# Altium schematic symbol library LJ_Mosfet_Power.SCHLIB: 137 symbols
Pins are listed as number, name and electrical type; pins without a type are passive.

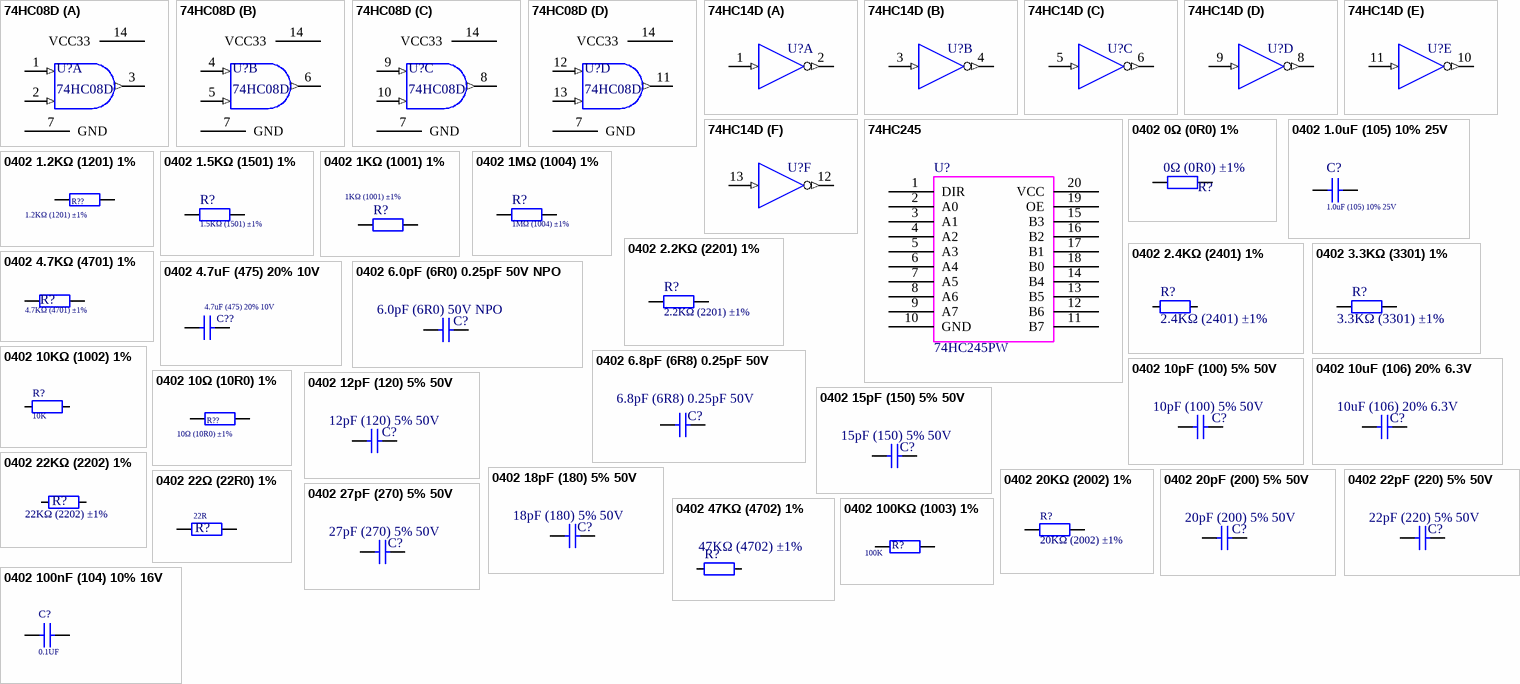
[diagram p0: symbols 74HC08D to 0402 100nF (104) 10% 16V]

## 74HC08D
designator U?
74系列逻辑芯片; ComponentLink1Description: 供应商链接; ComponentLink1URL: http://www.szlcsc.com/product/details_6044.html; Package: SOIC-14_150mil; Supplier: LC; SuppliersPartNumber: C5593
footprint SOIC-14_150mil
pins on every part: 7 GND (power) hidden, 14 VCC33 (power) hidden
part A pins: 1 A (in), 2 B (in), 3 Y (out)
part B pins: 4 A (in), 5 B (in), 6 Y (out)
part C pins: 8 Y (out), 9 A (in), 10 B (in)
part D pins: 11 Y (out), 12 A (in), 13 B (in)

## 74HC14D
designator U?  (value not drawn)
74系列逻辑芯片; ComponentLink1Description: 供应商链接; ComponentLink1URL: http://www.szlcsc.com/product/details_6056.html; Package: SOIC-14_150mil; Supplier: LC; SuppliersPartNumber: C5605
footprint SOIC-14_150mil
pins on every part: 7 GND (power) hidden, 14 VCC33 (power) hidden
part A pins: 1 A (in), 2 Y (out)
part B pins: 3 A (in), 4 Y (out)
part C pins: 5 A (in), 6 Y (out)
part D pins: 8 Y (out), 9 A (in)
part E pins: 10 Y (out), 11 A (in)
part F pins: 12 Y (out), 13 A (in)

## 74HC245
designator U?, comment 74HC245PW
74系列逻辑芯片; ComponentLink1Description: 供应商链接; ComponentLink1URL: http://www.szlcsc.com/product/details_6077.html; Package: TSSOP-20; Supplier: LC; SuppliersPartNumber: C5626
footprint TSSOP20
footprint LC-TSSOP-20
pins: 1 DIR, 2 A0, 3 A1, 4 A2, 5 A3, 6 A4, 7 A5, 8 A6, 9 A7, 10 GND, 11 B7, 12 B6, 13 B5, 14 B4, 15 B3, 16 B2, 17 B1, 18 B0, 19 OE, 20 VCC

## 0402 0Ω (0R0) 1%
designator R?, comment 0Ω (0R0) ±1%  (no BOM)
贴片电阻; ComponentLink1Description: 供应商链接; ComponentLink1URL: http://www.szlcsc.com/product/details_17853.html; Package: 0402; Supplier: LC; SuppliersPartNumber: XX-C17168
footprint 0402_R
pins: 1, 2

## 0402 1.0uF (105) 10% 25V
designator C?, comment 1.0uF (105) 10% 25V
贴片电容; ComponentLink1Description: 供应商链接; ComponentLink1URL: http://www.szlcsc.com/product/details_53938.html; Package: 0402; Supplier: LC; SuppliersPartNumber: C52923
footprint 0402_C
pins: 1, 2

## 0402 1.2KΩ (1201) 1%
designator R??, comment 1.2KΩ (1201) ±1%
贴片电阻; ComponentLink1Description: 供应商链接; ComponentLink1URL: http://www.szlcsc.com/product/details_26605.html; Package: 0402; Supplier: LC; SuppliersPartNumber: C25862
footprint 0402_R
pins: 1, 2

## 0402 1.5KΩ (1501) 1%
designator R?, comment 1.5KΩ (1501) ±1%
贴片电阻; ComponentLink1Description: 供应商链接; ComponentLink1URL: http://www.szlcsc.com/product/details_26610.html; Package: 0402; Supplier: LC; SuppliersPartNumber: C25867
footprint 0402_R
pins: 1, 2

## 0402 1KΩ (1001) 1%
designator R?, comment 1KΩ (1001) ±1%
贴片电阻; ComponentLink1Description: 供应商链接; ComponentLink1URL: http://www.szlcsc.com/product/details_12256.html; Package: 0402; Supplier: LC; SuppliersPartNumber: C11702
footprint 0402_R
pins: 1, 2

## 0402 1MΩ (1004) 1%
designator R?, comment 1MΩ (1004) ±1%
贴片电阻; ComponentLink1Description: 供应商链接; ComponentLink1URL: http://www.szlcsc.com/product/details_26826.html; Package: 0402; Supplier: LC; SuppliersPartNumber: C26083
footprint 0402_R
pins: 1, 2

## 0402 2.2KΩ (2201) 1%
designator R?, comment 2.2KΩ (2201) ±1%
贴片电阻; ComponentLink1Description: 供应商链接; ComponentLink1URL: http://www.szlcsc.com/product/details_26622.html; Package: 0402; Supplier: LC; SuppliersPartNumber: C25879
footprint 0402_R
pins: 1, 2

## 0402 2.4KΩ (2401) 1%
designator R?, comment 2.4KΩ (2401) ±1%
贴片电阻; ComponentLink1Description: 供应商链接; ComponentLink1URL: http://www.szlcsc.com/product/details_26625.html; Package: 0402; Supplier: LC; SuppliersPartNumber: C25882
footprint 0402_R
pins: 1, 2

## 0402 3.3KΩ (3301) 1%
designator R?, comment 3.3KΩ (3301) ±1%
贴片电阻; ComponentLink1Description: 供应商链接; ComponentLink1URL: http://www.szlcsc.com/product/details_26633.html; Package: 0402; Supplier: LC; SuppliersPartNumber: C25890
footprint 0402_R
pins: 1, 2

## 0402 4.7KΩ (4701) 1%
designator R?, comment 4.7KΩ (4701) ±1%
贴片电阻; ComponentLink1Description: 供应商链接; ComponentLink1URL: http://www.szlcsc.com/product/details_26643.html; Package: 0402; Supplier: LC; SuppliersPartNumber: C25900
footprint 0402_R
pins: 1, 2

## 0402 4.7uF (475) 20% 10V
designator C??, comment 4.7uF (475) 20% 10V
贴片电容; ComponentLink1Description: 供应商链接; ComponentLink1URL: http://www.szlcsc.com/product/details_24469.html; Package: 0402; Supplier: LC; SuppliersPartNumber: C23733
footprint 0402_C
pins: 1, 2

## 0402 6.0pF (6R0) 0.25pF 50V NPO
designator C?, comment 6.0pF (6R0) 50V NPO
贴片电容; ComponentLink1Description: 供应商链接; ComponentLink1URL: http://www.szlcsc.com/product/details_31031.html; Package: 0402; Supplier: LC; SuppliersPartNumber: C30274
footprint 0402_C
pins: 1, 2

## 0402 6.8pF (6R8) 0.25pF 50V
designator C?, comment 6.8pF (6R8) 0.25pF 50V
贴片电容; ComponentLink1Description: 供应商链接; ComponentLink1URL: http://www.szlcsc.com/product/details_1928.html; Package: 0402; Supplier: LC; SuppliersPartNumber: C1576
footprint 0402_C
pins: 1, 2

## 0402 10KΩ (1002) 1%
designator R?, comment VAL: 10K  (hidden comment: 10KΩ (1002) ±1%)
贴片电阻; ComponentLink1Description: 供应商链接; ComponentLink1URL: http://www.szlcsc.com/product/details_26487.html; Package: 0402; Supplier: LC; SuppliersPartNumber: C25744
footprint 0402_R
pins: 1, 2

## 0402 10pF (100) 5% 50V
designator C?, comment 10pF (100) 5% 50V
贴片电容; ComponentLink1Description: 供应商链接; ComponentLink1URL: http://www.szlcsc.com/product/details_33914.html; Package: 0402; Supplier: LC; SuppliersPartNumber: C32949
footprint 0402_C
pins: 1, 2

## 0402 10uF (106) 20% 6.3V
designator C?, comment 10uF (106) 20% 6.3V
贴片电容; ComponentLink1Description: 供应商链接; ComponentLink1URL: http://www.szlcsc.com/product/details_16204.html; Package: 0402; Supplier: LC; SuppliersPartNumber: C15525
footprint 0402_C
pins: 1, 2

## 0402 10Ω (10R0) 1%
designator R??, comment 10Ω (10R0) ±1%
贴片电阻; ComponentLink1Description: 供应商链接; ComponentLink1URL: http://www.szlcsc.com/product/details_25820.html; Package: 0402; Supplier: LC; SuppliersPartNumber: C25077
footprint 0402_R
pins: 1, 2

## 0402 12pF (120) 5% 50V
designator C?, comment 12pF (120) 5% 50V
贴片电容; ComponentLink1Description: 供应商链接; ComponentLink1URL: http://www.szlcsc.com/product/details_1899.html; Package: 0402; Supplier: LC; SuppliersPartNumber: C1547
footprint 0402_C
pins: 1, 2

## 0402 15pF (150) 5% 50V
designator C?, comment 15pF (150) 5% 50V
贴片电容; ComponentLink1Description: 供应商链接; ComponentLink1URL: http://www.szlcsc.com/product/details_1900.html; Package: 0402; Supplier: LC; SuppliersPartNumber: C1548
footprint 0402_C
pins: 1, 2

## 0402 18pF (180) 5% 50V
designator C?, comment 18pF (180) 5% 50V
贴片电容; ComponentLink1Description: 供应商链接; ComponentLink1URL: http://www.szlcsc.com/product/details_1901.html; Package: 0402; Supplier: LC; SuppliersPartNumber: C1549
footprint 0402_C
pins: 1, 2

## 0402 20KΩ (2002) 1%
designator R?, comment 20KΩ (2002) ±1%
贴片电阻; ComponentLink1Description: 供应商链接; ComponentLink1URL: http://www.szlcsc.com/product/details_26508.html; Package: 0402; Supplier: LC; SuppliersPartNumber: C25765
footprint 0402_R
pins: 1, 2

## 0402 20pF (200) 5% 50V
designator C?, comment 20pF (200) 5% 50V
贴片电容; ComponentLink1Description: 供应商链接; ComponentLink1URL: http://www.szlcsc.com/product/details_1906.html; Package: 0402; Supplier: LC; SuppliersPartNumber: C1554
footprint 0402_C
pins: 1, 2

## 0402 22KΩ (2202) 1%
designator R?, comment 22KΩ (2202) ±1%
贴片电阻; ComponentLink1Description: 供应商链接; ComponentLink1URL: http://www.szlcsc.com/product/details_26511.html; Package: 0402; Supplier: LC; SuppliersPartNumber: C25768
footprint 0402_R
pins: 1, 2

## 0402 22pF (220) 5% 50V
designator C?, comment 22pF (220) 5% 50V
贴片电容; ComponentLink1Description: 供应商链接; ComponentLink1URL: http://www.szlcsc.com/product/details_1907.html; Package: 0402; Supplier: LC; SuppliersPartNumber: C1555
footprint 0402_C
pins: 1, 2

## 0402 22Ω (22R0) 1%
designator R?, comment VAL: 22R  (hidden comment: 22Ω (22R0) ±1%)
贴片电阻; ComponentLink1Description: 供应商链接; ComponentLink1URL: http://www.szlcsc.com/product/details_25835.html; Package: 0402; Supplier: LC; SuppliersPartNumber: C25092
footprint 0402_R
pins: 1, 2

## 0402 27pF (270) 5% 50V
designator C?, comment 27pF (270) 5% 50V
贴片电容; ComponentLink1Description: 供应商链接; ComponentLink1URL: http://www.szlcsc.com/product/details_1909.html; Package: 0402; Supplier: LC; SuppliersPartNumber: C1557
footprint 0402_C
pins: 1, 2

## 0402 47KΩ (4702) 1%
designator R?, comment 47KΩ (4702) ±1%
贴片电阻; ComponentLink1Description: 供应商链接; ComponentLink1URL: http://www.szlcsc.com/product/details_26535.html; Package: 0402; Supplier: LC; SuppliersPartNumber: C25792
footprint 0402_R
pins: 1, 2

## 0402 100KΩ (1003) 1%
designator R?, comment VAL: 100K  (hidden comment: 100KΩ (1003) ±1%)
贴片电阻; ComponentLink1Description: 供应商链接; ComponentLink1URL: http://www.szlcsc.com/product/details_26484.html; Package: 0402; Supplier: LC; SuppliersPartNumber: C25741
footprint 0402_R
pins: 1, 2

## 0402 100nF (104) 10% 16V
designator C?, comment VAL: 0.1UF  (hidden comment: 100nF (104) 10% 16V)
贴片电容; ComponentLink1Description: 供应商链接; ComponentLink1URL: http://www.szlcsc.com/product/details_1877.html; Package: 0402; Supplier: LC; SuppliersPartNumber: C1525
footprint 0402_C
pins: 1, 2

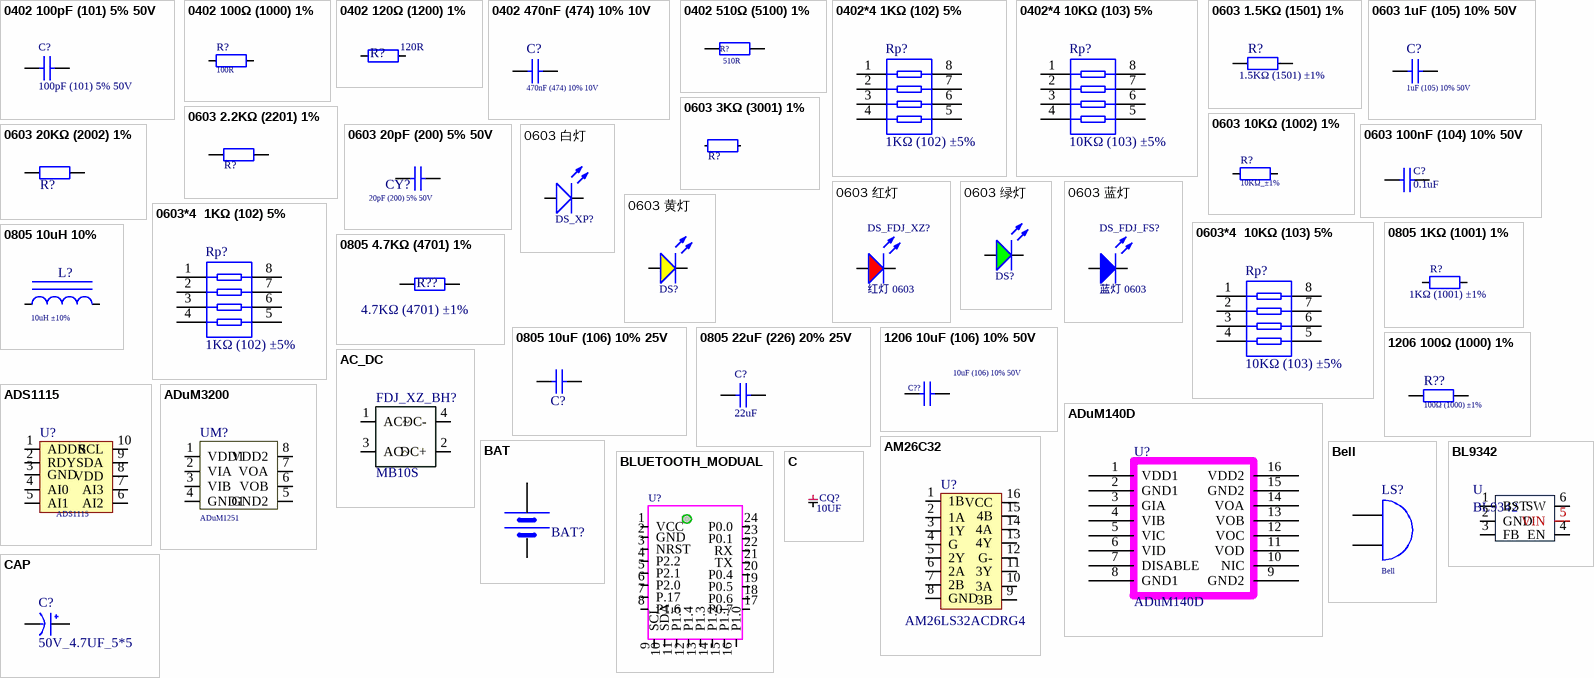
[diagram p1: symbols 0402 100pF (101) 5% 50V to CAP]

## 0402 100pF (101) 5% 50V
designator C?, comment 100pF (101) 5% 50V
贴片电容; ComponentLink1Description: 供应商链接; ComponentLink1URL: http://www.szlcsc.com/product/details_1898.html; Package: 0402; Supplier: LC; SuppliersPartNumber: C1546
footprint 0402_C
pins: 1, 2

## 0402 100Ω (1000) 1%
designator R?, comment VAL: 100R  (hidden comment: 100Ω (1000) ±1%)
贴片电阻; ComponentLink1Description: 供应商链接; ComponentLink1URL: http://www.szlcsc.com/product/details_25819.html; Package: 0402; Supplier: LC; SuppliersPartNumber: C25076
footprint 0402_R
pins: 1, 2

## 0402 120Ω (1200) 1%
designator R?, comment VAL: 120R  (hidden comment: 120Ω (1200) ±1%)
贴片电阻; ComponentLink1Description: 供应商链接; ComponentLink1URL: http://www.szlcsc.com/product/details_25822.html; Package: 0402; Supplier: LC; SuppliersPartNumber: C25079
footprint 0402_R
pins: 1, 2

## 0402 470nF (474) 10% 10V
designator C?, comment 470nF (474) 10% 10V
贴片电容; ComponentLink1Description: 供应商链接; ComponentLink1URL: http://www.szlcsc.com/product/details_48344.html; Package: 0402; Supplier: LC; SuppliersPartNumber: C47339
footprint 0402_C
pins: 1, 2

## 0402 510Ω (5100) 1%
designator R?, comment VAL: 510R  (hidden comment: 510Ω (5100) ±1%)
贴片电阻; ComponentLink1Description: 供应商链接; ComponentLink1URL: http://www.szlcsc.com/product/details_25866.html; Package: 0402; Supplier: LC; SuppliersPartNumber: C25123
footprint 0402_R
pins: 1, 2

## 0402*4 1KΩ (102) 5%
designator Rp?, comment 1KΩ (102) ±5%
贴片排阻; ComponentLink1Description: 供应商链接; ComponentLink1URL: http://www.szlcsc.com/product/details_26469.html; Package: 0402*4; Supplier: LC; SuppliersPartNumber: C25726
footprint 0402_Rx4
pins: 1, 2, 3, 4, 5, 6, 7, 8

## 0402*4 10KΩ (103) 5%
designator Rp?, comment 10KΩ (103) ±5%
贴片排阻; ComponentLink1Description: 供应商链接; ComponentLink1URL: http://www.szlcsc.com/product/details_26468.html; Package: 0402*4; Supplier: LC; SuppliersPartNumber: C25725
footprint 0402_Rx4
pins: 1, 2, 3, 4, 5, 6, 7, 8

## 0603 1.5KΩ (1501) 1%
designator R?, comment 1.5KΩ (1501) ±1%
贴片电阻; ComponentLink1Description: 供应商链接; ComponentLink1URL: http://www.szlcsc.com/product/details_23570.html; Package: 0603; Supplier: LC; SuppliersPartNumber: C22843
footprint 0603_R
pins: 1, 2

## 0603 1uF (105) 10% 50V
designator C?, comment 1uF (105) 10% 50V
贴片电容; ComponentLink1Description: 供应商链接; ComponentLink1URL: http://www.szlcsc.com/product/details_16531.html; Package: 0603; Supplier: LC; SuppliersPartNumber: C15849
footprint 0603_C
pins: 1, 2

## 0603 2.2KΩ (2201) 1%
designator R?, comment 2.2KΩ (2201) ±1%  (value not drawn)
贴片电阻; VAL: 2.2K_±1%; ComponentLink1Description: 供应商链接; ComponentLink1URL: http://www.szlcsc.com/product/details_4597.html; Package: 0603; Supplier: LC; SuppliersPartNumber: C4190
footprint 0603_R
pins: 1, 2

## 0603 3KΩ (3001) 1%
designator R?, comment 3KΩ (3001) ±1%  (value not drawn)
贴片电阻; VAL: 3K_±1%; ComponentLink1Description: 供应商链接; ComponentLink1URL: http://www.szlcsc.com/product/details_4618.html; Package: 0603; Supplier: LC; SuppliersPartNumber: C4211
footprint 0603_R
pins: 1, 2

## 0603 10KΩ (1002) 1%
designator R?, comment VAL: 10KΩ_±1%  (hidden comment: 10KΩ (1002) ±1%)
贴片电阻; ComponentLink1Description: 供应商链接; ComponentLink1URL: http://www.szlcsc.com/product/details_26547.html; Package: 0603; Supplier: LC; SuppliersPartNumber: C25804
footprint 0603_R
pins: 1, 2

## 0603 20KΩ (2002) 1%
designator R?, comment 20KΩ (2002) ±1%  (value not drawn)
贴片电阻; VAL: 20KΩ_±1%; ComponentLink1Description: 供应商链接; ComponentLink1URL: http://www.szlcsc.com/product/details_4591.html; Package: 0603; Supplier: LC; SuppliersPartNumber: C4184
footprint 0603_R
pins: 1, 2

## 0603 20pF (200) 5% 50V
designator CY?, comment 20pF (200) 5% 50V
贴片电容; ComponentLink1Description: 供应商链接; ComponentLink1URL: http://www.szlcsc.com/product/details_2000.html; Package: 0603; Supplier: LC; SuppliersPartNumber: C1648
footprint 0603_C
pins: 1, 2

## 0603 100nF (104) 10% 50V
designator C?, comment VAL: 0.1uF  (hidden comment: 100nF (104) 10% 50V)
贴片电容; ComponentLink1Description: 供应商链接; ComponentLink1URL: http://www.szlcsc.com/product/details_15331.html; Package: 0603; Supplier: LC; SuppliersPartNumber: C14663
footprint 0603_C
pins: 1, 2

## 0603 白灯
designator DS_XP?, comment 白灯 0603  (value not drawn)
发光二极管; ComponentLink1Description: 供应商链接; ComponentLink1URL: http://www.szlcsc.com/product/details_2663.html; Package: 0603; Supplier: LC; SuppliersPartNumber: C2290
footprint 0603_LED_S1
pins: A, K

## 0603 红灯
designator DS_FDJ_XZ?, comment 红灯 0603
发光二极管; ComponentLink1Description: 供应商链接; ComponentLink1URL: http://www.szlcsc.com/product/details_2659.html; Package: 0603; Supplier: LC; SuppliersPartNumber: C2286
footprint 0603_LED_S1
pins: A, K

## 0603 绿灯
designator DS?, comment 绿灯 0603  (value not drawn)
发光二极管; ComponentLink1Description: 供应商链接; ComponentLink1URL: http://www.szlcsc.com/product/details_73152.html; Package: 0603; Supplier: LC; SuppliersPartNumber: C72043
footprint 0603_LED_S1
pins: A, K

## 0603 蓝灯
designator DS_FDJ_FS?, comment 蓝灯 0603
发光二极管; ComponentLink1Description: 供应商链接; ComponentLink1URL: http://www.szlcsc.com/product/details_73150.html; Package: 0603; Supplier: LC; SuppliersPartNumber: C72041
footprint 0603_LED_S1
pins: A, K

## 0603 黄灯
designator DS?, comment 黄灯 0603  (value not drawn)
发光二极管; ComponentLink1Description: 供应商链接; ComponentLink1URL: http://www.szlcsc.com/product/details_73147.html; Package: 0603; Supplier: LC; SuppliersPartNumber: C72038
footprint 0603_LED_S1
pins: A, K

## 0603*4  1KΩ (102) 5%
designator Rp?, comment 1KΩ (102) ±5%
贴片排阻; ComponentLink1Description: 供应商链接; ComponentLink1URL: http://www.szlcsc.com/product/details_20907.html; Package: 0603*4; Supplier: LC; SuppliersPartNumber: C20197
footprint 0603_Rx4
pins: 1, 2, 3, 4, 5, 6, 7, 8

## 0603*4  10KΩ (103) 5%
designator Rp?, comment 10KΩ (103) ±5%
贴片排阻; ComponentLink1Description: 供应商链接; ComponentLink1URL: http://www.szlcsc.com/product/details_30472.html; Package: 0603*4; Supplier: LC; SuppliersPartNumber: C29718
footprint 0603_Rx4
pins: 1, 2, 3, 4, 5, 6, 7, 8

## 0805 1KΩ (1001) 1%
designator R?, comment 1KΩ (1001) ±1%
贴片电阻; ComponentLink1Description: 供应商链接; ComponentLink1URL: http://www.szlcsc.com/product/details_18201.html; Package: 0805; Supplier: LC; SuppliersPartNumber: C17513
footprint 0805_R
pins: 1, 2

## 0805 4.7KΩ (4701) 1%
designator R??, comment 4.7KΩ (4701) ±1%
贴片电阻; ComponentLink1Description: 供应商链接; ComponentLink1URL: http://www.szlcsc.com/product/details_18361.html; Package: 0805; Supplier: LC; SuppliersPartNumber: C17673
footprint 0805_R
pins: 1, 2

## 0805 10uF (106) 10% 25V
designator C?, comment 10uF (106) 10% 25V  (value not drawn)
贴片电容; ComponentLink1Description: 供应商链接; ComponentLink1URL: http://www.szlcsc.com/product/details_16532.html; Package: 0805; Supplier: LC; SuppliersPartNumber: C15850
footprint 0805_C
pins: 1, 2

## 0805 10uH 10%
designator L?, comment 10uH ±10%
贴片电感/10uH ±5% 155mA 编带; ComponentLink1Description: 供应商链接; ComponentLink1URL: http://www.szlcsc.com/product/details_77952.html; Package: 1008; Supplier: TDK; SuppliersPartNumber: C76825; VAL: 10uH
footprint 0805_L
footprint 1206R
pins: 1, 2

## 0805 22uF (226) 20% 25V
designator C?, comment VAL: 22uF  (hidden comment: 22uF (226) 20% 25V)
贴片电容; ComponentLink1Description: 供应商链接; ComponentLink1URL: http://www.szlcsc.com/product/details_46786.html; Package: 0805; Supplier: LC; SuppliersPartNumber: C45783
footprint 0805_C
pins: 1, 2

## 1206 10uF (106) 10% 50V
designator C??, comment 10uF (106) 10% 50V
贴片电容; ComponentLink1Description: 供应商链接; ComponentLink1URL: http://www.szlcsc.com/product/details_14236.html; Package: 1206; Supplier: LC; SuppliersPartNumber: C13585
footprint 1206_C
pins: 1, 2

## 1206 100Ω (1000) 1%
designator R??, comment 100Ω (1000) ±1%
贴片电阻; ComponentLink1Description: 供应商链接; ComponentLink1URL: http://www.szlcsc.com/product/details_18589.html; Package: 1206; Supplier: LC; SuppliersPartNumber: C17901
footprint 1206_R
pins: 1, 2

## AC_DC
designator FDJ_XZ_BH?, comment MB10S
整流桥; SuppliersPartNumber: C2488; ComponentLink1URL: http://www.szlcsc.com/product/details_2865.html; Package: MBS; ComponentLink1Description: 供应商链接; Supplier: LC
footprint MBS
pins: 1 AC~, 2 DC+, 3 AC~, 4 DC-

## ADS1115
designator U?
ADS1115IDGSR; SuppliersPartNumber: C37593; Package: MSOP-10; ComponentLink1URL: http://www.szlcsc.com/product/details_38573.html; VAL: ADS1115IDGSR
footprint ADS1115IDGS
footprint LC-MSOP-10
pins: 1 ADDR, 2 RDY, 3 GND, 4 AI0, 5 AI1, 6 AI2, 7 AI3, 8 VDD, 9 SDA, 10 SCL

## ADuM140D
designator U?
VAL: ADUM1410ARWZ-RL; Package: SOIC-16_300mil; ComponentLink1URL: http://www.szlcsc.com/product/details_19755.html; SuppliersPartNumber: C19052
footprint ADUM140D_SOIC_W_16
footprint SOIC-16_300mil
pins: 1 VDD1, 2 GND1, 3 GIA, 4 VIB, 5 VIC, 6 VID, 7 DISABLE, 8 GND1, 9 GND2, 10 NIC, 11 VOD, 12 VOC, 13 VOB, 14 VOA, 15 GND2, 16 VDD2

## ADuM3200
designator UM?, comment ADuM1251
ADUM1250ARZ; VAL: ADUM1250ARZ; Package: SOIC-8_150mil; SuppliersPartNumber: C13839; ComponentLink1URL: http://www.szlcsc.com/product/details_14494.html
footprint SO-8
footprint SOIC8
footprint SOIC-8_150mil
pins: 1 VDD1, 2 VIA, 3 VIB, 4 GND1, 5 GND2, 6 VOB, 7 VOA, 8 VDD2

## AM26C32
designator U?, comment AM26LS32ACDRG4
ComponentLink1Description: 供应商链接; ComponentLink1URL: http://www.szlcsc.com/product/details_6646.html; Package: SOIC-16_150mil; Supplier: LC; SuppliersPartNumber: C6180
footprint AM26C32
footprint SOIC-16_150mil
pins: 1 1B, 2 1A, 3 1Y, 4 G, 5 2Y, 6 2A, 7 2B, 8 GND, 9 3B, 10 3A, 11 3Y, 12 G-, 13 4Y, 14 4A, 15 4B, 16 VCC

## BAT
designator BAT?, comment CR1120  (value not drawn)
footprint BATM (BAT)
footprint XH2.54-2
footprint BAT-CR1220
pins: 1 VCC, 2 GND

## Bell
designator LS?
Electrical Bell
footprint FMQ
pins: 1 A, 2 B
2 alternate drawings of the same symbol

## BL9342
designator U
40V, 600mA , Step-Down Converter,DC-DC芯片
footprint SOT23-6 (SOT-23/SC-74A; 5 Leads; Body 3.1 x 3 mm, inc. leads (LxW max))
pins: 1 BST, 2 GND, 3 FB, 4 EN, 5 VIN, 6 SW

## BLUETOOTH_MODUAL
designator U?  (value not drawn)
footprint PCBComponent_1
pins: 1 VCC, 2 GND, 3 NRST, 4 P2.2, 5 P2.1, 6 P2.0, 7 P.17, 8 P1.6, 9 SCL, 10 SDA, 11 P1.5, 12 P1.4, 13 P1.3, 14 P1.2, 15 P1.1, 16 P1.0, 17 P0.7, 18 P0.6, 19 P0.5, 20 P0.4, 21 TX, 22 RX, 23 P0.1, 24 P0.0

## C
designator CQ?, comment 10UF
贴片电容; VAL: 贴片电容10UF 100V 1210 106K 10% X7R 无极性电容10UF C3225陶瓷; VAL: TDK贴片电容10UF 50V/100V 1812 106K 10% X7R 无极性电容 C4532; Package: C1210
footprint C1210
pins: 1, 2

## CAP
designator C?, comment 50V_4.7UF_5*5
VAL: ELNA 25V4.7UF RC3系列 4*5 85度; InstructionS: 50V4.7UF 5*5; Package: C5X8
footprint C5X8 (RB.1/.2)
pins: 1 VCC, 2 GND

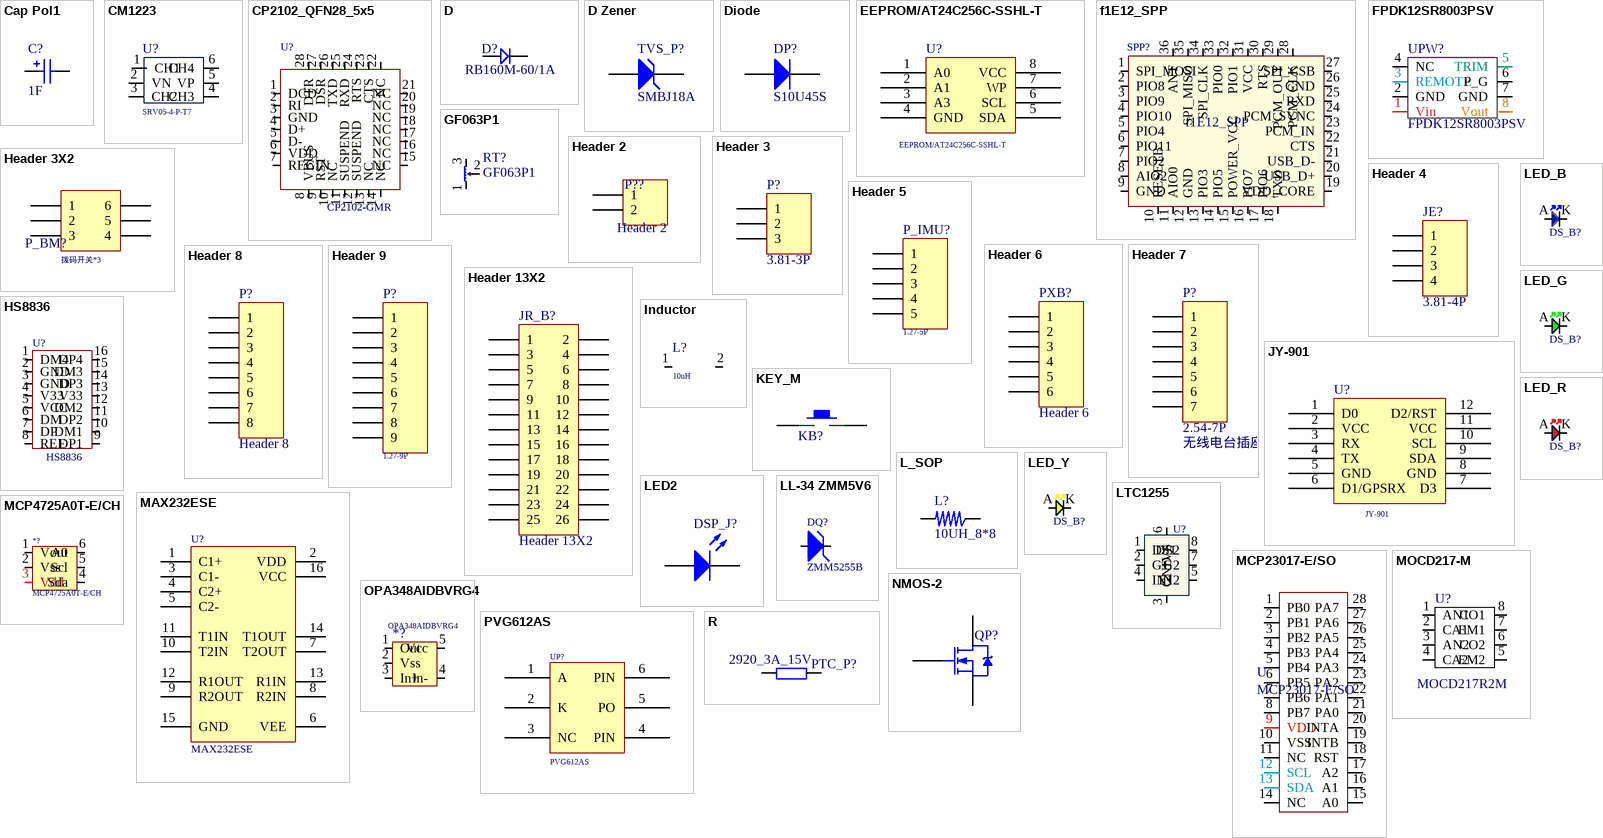
[diagram p2: symbols Cap Pol1 to R]

## Cap Pol1
designator C?, comment 1F
Polarized Capacitor (Radial)
footprint RB7.6-15 (Polarized Capacitor (Radial); 2 Leads)
pins: 1, 2
1 alternate drawing of the same symbol

## CM1223
designator U?, comment SRV05-4-P-T7
ESD 抑制器/TVS 二极管; VAL: SRV05-4-P-T7; Package: SOT-23-6; ComponentLink1Description: 供应商链接; ComponentLink1URL: http://www.szlcsc.com/product/details_86537.html; SuppliersPartNumber: C85364; Supplier: LC
footprint SOT23-6 (SOT-23/SC-74A; 5 Leads; Body 3.1 x 3 mm, inc. leads (LxW max))
pins: 1 CH1, 2 VN, 3 CH2, 4 CH3, 5 VP, 6 CH4

## CP2102_QFN28_5x5
designator U?, comment CP2102-GMR
UART TO USB; Package: QFN-28_5x5x05P; ComponentLink1URL: http://www.szlcsc.com/product/details_7033.html; SuppliersPartNumber: C6568; VAL: CP2102-GMR
footprint Model Name (Footprint not found)
footprint QFN-28 (QFN, 28-Leads, Body 5.00x5.00mm, Pitch 0.50mm, Thermal Pad 3.03x3.03mm, IPC Medium Density)
pins: 1 DCD, 2 RI, 3 GND, 4 D+, 5 D-, 6 VDD, 7 REGIN, 8 VBUS, 9 RST, 10 NC, 11 SUSPEND, 12 SUSPEND, 13 NC, 14 NC, 15 NC, 16 NC, 17 NC, 18 NC, 19 NC, 20 NC, 21 NC, 22 NC, 23 CTS, 24 RTS, 25 RXD, 26 TXD, 27 DSR, 28 DTR

## D
designator D?, comment RB160M-60/1A
二极管; VAL: RB160M-60/1A
footprint SOD123 (1206)
pins: 1, 2

## D Zener
designator TVS_P?, comment SMBJ18A
TVS
simulation model ZENER (Diode)
signal-integrity model D Zener
footprint SMB (DO-214AA)
pins: 1 A, 2 K

## Diode
designator DP?, comment S10U45S
SB1045L-TO-277超低功耗肖特基二极管; Package: TO-277B
footprint SMC (DO-214AB(2114))
simulation model DIODE (Diode)
signal-integrity model Diode
footprint SMC (DO-214AB(2114))
footprint TO-277B (SB1045L-TO-277超低功耗肖特基二极管)
pins: 1 A, 2 K

## EEPROM/AT24C256C-SSHL-T
designator U?
EEPROM; ComponentLink1Description: 供应商链接; ComponentLink1URL: http://www.szlcsc.com/product/details_6947.html; Package: SOIC-8_150mil; Supplier: LC; SuppliersPartNumber: C6482
footprint SOIC-8_150mil
pins: 1 A0, 2 A1, 3 A3, 4 GND, 5 SDA, 6 SCL, 7 WP, 8 VCC

## f1E12_SPP
designator SPP?
footprint f1E12_SPP
pins: 1 SPI_MOSI, 2 PIO8, 3 PIO9, 4 PIO10, 5 PIO4, 6 PIO11, 7 PIO2, 8 AIO2, 9 GND, 10 RESETB, 11 AIO0, 12 GND, 13 PIO3, 14 PIO5, 15 POWER_VCC, 16 PIO7, 17 PIO6, 18 TXD, 19 VDD_CORE, 20 USB_D+, 21 USB_D-, 22 CTS, 23 PCM_IN, 24 PCM_SYNC, 25 RXD, 26 GND, 27 SPI_CSB, 28 PCM_CLK, 29 PCM_OUT, 30 RTS, 31 VCC, 32 PIO1, 33 PIO0, 34 SPI_CLK, 35 SPI_MISO, 36 ANT

## FPDK12SR8003PSV
designator UPW?
非隔离可调DC-DC模块; VAL: 非隔离12-5.0V,DC-DC模块
footprint FPDK12SR8003PSV (5.6-14.0Vdc Input, 3A, 0.8-6.6Vdc Output)
pins: 1 Vin, 2 GND, 3 REMOTE, 4 NC, 5 TRIM, 6 P_G, 7 GND, 8 Vout

## GF063P1
designator RT?
单圈变阻器; VAL: 非隔离5V电源输出调节电阻
footprint GF063P1 (TOCOS 1/4’’ Square, Single-Turn, Through-Hole Sealed Cermet Trimmers)
pins: 1, 2, 3

## Header 2
designator P??
Header, 2-Pin; LatestRevisionDate: 17-Jul-2002; LatestRevisionNote: Re-released for DXP Platform.; Publisher: Altium Limited
footprint HDR1X2 (Connector; Header; 2 Position)
signal-integrity model Connector
footprint KF250-3.5-2P
pins: 1, 2

## Header 3
designator P?, comment 3.81-3P
主板强电电源入口插座; VAL: 主板强电电源入口插座
footprint 381-3
pins: 1, 2, 3

## Header 3X2
designator P_BM?, comment 拨码开关*3
Header, 3-Pin, Dual row
signal-integrity model Connector
footprint 1.27*3P_拨码开关
pins: 1, 2, 3, 4, 5, 6

## Header 4
designator JE?, comment 3.81-4P
发动机保护信号输入端子; VAL: 发动机保护信号输入端子
footprint HDR1X4 (Connector; Header; 4 Position)
signal-integrity model Connector
footprint 3.81-4P
pins: 1, 2, 3, 4

## Header 5
designator P_IMU?, comment 1.27-5P
Header, 5-Pin
footprint MHDR1X5
signal-integrity model Connector
pins: 1, 2, 3, 4, 5

## Header 6
designator PXB?
Header, 6-Pin; LatestRevisionDate: 17-Jul-2002; LatestRevisionNote: Re-released for DXP Platform.; Publisher: Altium Limited
footprint HDR1X6 (Connector; Header; 6 Position)
signal-integrity model Connector
footprint MHDR1X6 (Connector; Header; 6 Position)
pins: 1, 2, 3, 4, 5, 6

## Header 7
designator P?, comment 2.54-7P
无线电台插座; VAL: 无线电台插座
footprint HDR1X7 (Connector; Header; 7 Position)
signal-integrity model Connector
footprint E32-TTL-100 (无线模块)
pins: 1, 2, 3, 4, 5, 6, 7

## Header 8
designator P?
Header, 8-Pin; LatestRevisionDate: 17-Jul-2002; LatestRevisionNote: Re-released for DXP Platform.; Publisher: Altium Limited
signal-integrity model Connector
footprint 3.81-8P
pins: 1, 2, 3, 4, 5, 6, 7, 8

## Header 9
designator P?, comment 1.27-9P
机箱指示灯板连接插座; VAL: 机箱指示灯板连接插座
signal-integrity model Connector
footprint MHDR1X9 (Connector; Header; 9 Position)
pins: 1, 2, 3, 4, 5, 6, 7, 8, 9

## Header 13X2
designator JR_B?
Header, 13-Pin, Dual row; LatestRevisionDate: 17-Jul-2002; LatestRevisionNote: Re-released for DXP Platform.; Publisher: Altium Limited
footprint FKV26HR
signal-integrity model Connector
pins: 1, 2, 3, 4, 5, 6, 7, 8, 9, 10, 11, 12, 13, 14, 15, 16, 17, 18, 19, 20, 21, 22, 23, 24, 25, 26

## HS8836
designator U?
4 port USB2.0 HUB IC; ComponentLink1URL: http://www.ijingpin.cn/chanpinzhongxin/jichengdianlu/USBIC/4.html; Package: SOP-16; VAL: HS8836
footprint SOP16 (SOP, 16-Leads, Body 9.90x3.90mm, Pitch 1.27mm, IPC Medium Density)
pins: 1 DM4, 2 GND, 3 GND, 4 V33, 5 VCC, 6 DM, 7 DP, 8 REF, 9 DP1, 10 DM1, 11 DP2, 12 DM2, 13 V33, 14 DP3, 15 DM3, 16 DP4

## Inductor
designator L?, comment 10uH
贴片电感/10uH ±5% 155mA 编带; ComponentLink1URL: http://www.szlcsc.com/product/details_77952.html; Supplier: TDK
footprint 1210R
pins: 1, 2

## JY-901
designator U?
君悦智控高精度9轴传感器; VAL: 君悦智控高精度9轴传感器
footprint JY-901
pins: 1 D0, 2 VCC, 3 RX, 4 TX, 5 GND, 6 D1/GPSRX, 7 D3, 8 GND, 9 SDA, 10 SCL, 11 VCC, 12 D2/RST
2 alternate drawings of the same symbol

## KEY_M
designator KB?  (value not drawn)
footprint SW-SMD1
pins: 1, 2

## L_SOP
designator L?, comment 10UH_8*8
TDK直插电感; VAL: TDK直插电感 10UH 8X8 工字 TSL0808RA-100K2R6-PF
footprint L8x8 (L?)
pins: 1, 2

## LED2
designator DSP_J?, comment LED_5mm  (value not drawn)
Typical RED, GREEN, YELLOW, AMBER GaAs LED
simulation model LED2 (Diode)
footprint LED-5MM
pins: 1 A, 2 K

## LED_B
designator DS_B?, comment 蓝灯 0603  (value not drawn)
发光二极管; InstructionS: B_Vf=2.5-3.1V_IF=5mA_VR=5.0V_1.6*0.8*0.4mm; ComponentLink1Description: 供应商链接; ComponentLink1URL: http://www.szlcsc.com/product/details_73150.html; Package: 0603; Supplier: LC; SuppliersPartNumber: C72041
footprint 0603_LED_S1
pins: A, K

## LED_G
designator DS_B?, comment 绿灯 0603  (value not drawn)
发光二极管; InstructionS: G_Vf=2.7-3.3-3.7V_IF=20mA_VR=5.0V_1.6*0.8*0.4mm; ComponentLink1Description: 供应商链接; ComponentLink1URL: http://www.szlcsc.com/product/details_73152.html; Package: 0603; Supplier: LC; SuppliersPartNumber: C72043
footprint 0603_LED_S1
pins: A, K

## LED_R
designator DS_B?, comment 红灯 0603  (value not drawn)
发光二极管; InstructionS: R_Vf=1.9-2.2V_IF=20mA_VR=5.0V_1.6*0.8*0.4mm; ComponentLink1Description: 供应商链接; ComponentLink1URL: http://www.szlcsc.com/product/details_2659.html; Package: 0603; Supplier: LC; SuppliersPartNumber: C2286
footprint 0603_LED_S1
pins: A, K

## LED_Y
designator DS_B?, comment 黄灯 0603  (value not drawn)
发光二极管; InstructionS: Y_Vf=1.7-2.3V_IF=20mA_VR=5.0V_1.6*0.8*0.6mm; ComponentLink1Description: 供应商链接; ComponentLink1URL: http://www.szlcsc.com/product/details_73147.html; Package: 0603; Supplier: LC; SuppliersPartNumber: C72038
footprint 0603_LED_S1
pins: A, K

## LL-34 ZMM5V6
designator DQ?, comment ZMM5255B
稳压二极管; ComponentLink1Description: 供应商链接; ComponentLink1URL: http://www.szlcsc.com/product/details_119974.html; Package: LL-34; Supplier: LC; SuppliersPartNumber: C118707; VAL: ZMM5255B
footprint LL-34
pins: 1 A, 2 K

## LTC1255
designator U?, comment LTC1255CS8  (value not drawn)
VAL: LTC1255CS8; ComponentLink1Description: 官网链接; ComponentLink1URL: http://www.linear.com.cn/product/ltc1255
footprint SOIC8
pins: 1 DS1, 2 G1, 3 GND, 4 IN1, 5 IN2, 6 VS, 7 G2, 8 DS2

## MAX232ESE
designator U?
RS232; ComponentLink1Description: 供应商链接; ComponentLink1URL: http://www.szlcsc.com/product/details_27608.html; Package: SOIC-16_150mil; Supplier: LC; SuppliersPartNumber: C26860
footprint SOIC-16_150mil
pins: 1 C1+, 2 VDD (power), 3 C1-, 4 C2+, 5 C2-, 6 VEE (power), 7 T2OUT, 8 R2IN, 9 R2OUT, 10 T2IN, 11 T1IN, 12 R1OUT, 13 R1IN, 14 T1OUT, 15 GND (power), 16 VCC (power)

## MCP4725A0T-E/CH
designator *?
数模转换芯片; 封装规格: SOT-23-6; 商品编号: C144198; 链接: http://item.szlcsc.com/155530.html
footprint SOT23-5
pins: 1 Vout, 2 Vss, 3 Vdd, 4 Sda, 5 Scl, 6 A0

## MCP23017-E/SO
designator U
16-Bit I/O Expander with Serial Interface
footprint LC-SOIC-28_300mil
pins: 1 PB0, 2 PB1, 3 PB2, 4 PB3, 5 PB4, 6 PB5, 7 PB6, 8 PB7, 9 VDD, 10 VSS, 11 NC, 12 SCL, 13 SDA, 14 NC, 15 A0, 16 A1, 17 A2, 18 RST, 19 INTB, 20 INTA, 21 PA0, 22 PA1, 23 PA2, 24 PA3, 25 PA4, 26 PA5, 27 PA6, 28 PA7

## MOCD217-M
designator U?, comment MOCD217R2M
贴片光耦(FAIRCHILD)Dual Channel 30 V 2500 Vrms; VAL: MOCD217R2M; SuppliersPartNumber: C14315; ComponentLink1URL: http://www.szlcsc.com/product/details_14975.html; Package: SO-8_3.9mm; Supplier: LC
footprint LC-SO-8_3.9mm
pins: 1 AN1, 2 CA1, 3 AN2, 4 CA2, 5 EM2, 6 CO2, 7 EM1, 8 CO1

## NMOS-2
designator QP?, comment STB120NF10  (value not drawn)
N-Channel Power MOSFET; ComponentLink1Description: 供应商链接; ComponentLink1URL: http://www.st.com/content/st_com/en/products/power-transistors/power-mosfets/n-channel-stripfet-gt-30-v-to-350-v/stb120nf10.html; VAL: STB120NF10
simulation model IRF1010 (Spice Subcircuit)
footprint DPAK2 /to263
pins: 1 G, 2 D, 3 S

## OPA348AIDBVRG4
designator *?
通用运放; 封装规格: SOT-23-5; 商品编号: C46142; 链接: http://item.szlcsc.com/47145.html
footprint SOT23-5
pins: 1 Out, 2 Vss, 3 In+, 4 In-, 5 Vcc

## PVG612AS
designator UP?
footprint SMD-6 (Microelectronic Power IC HEXFET Power MOSFET Photovoltaic Relay Single-Pole, Normally-Open, 0-60V, 2.0A AC / 4.0A DC)
pins: 1 A, 2 K, 3 NC, 4 PIN, 5 PO, 6 PIN

## R
designator PTC_P?, comment 2920_3A_15V
VAL: Littelfuse力特 2920 3A 15V PTC贴片自恢复保险丝2920L300/15DR
footprint F2920 (7452)
pins: 1, 2

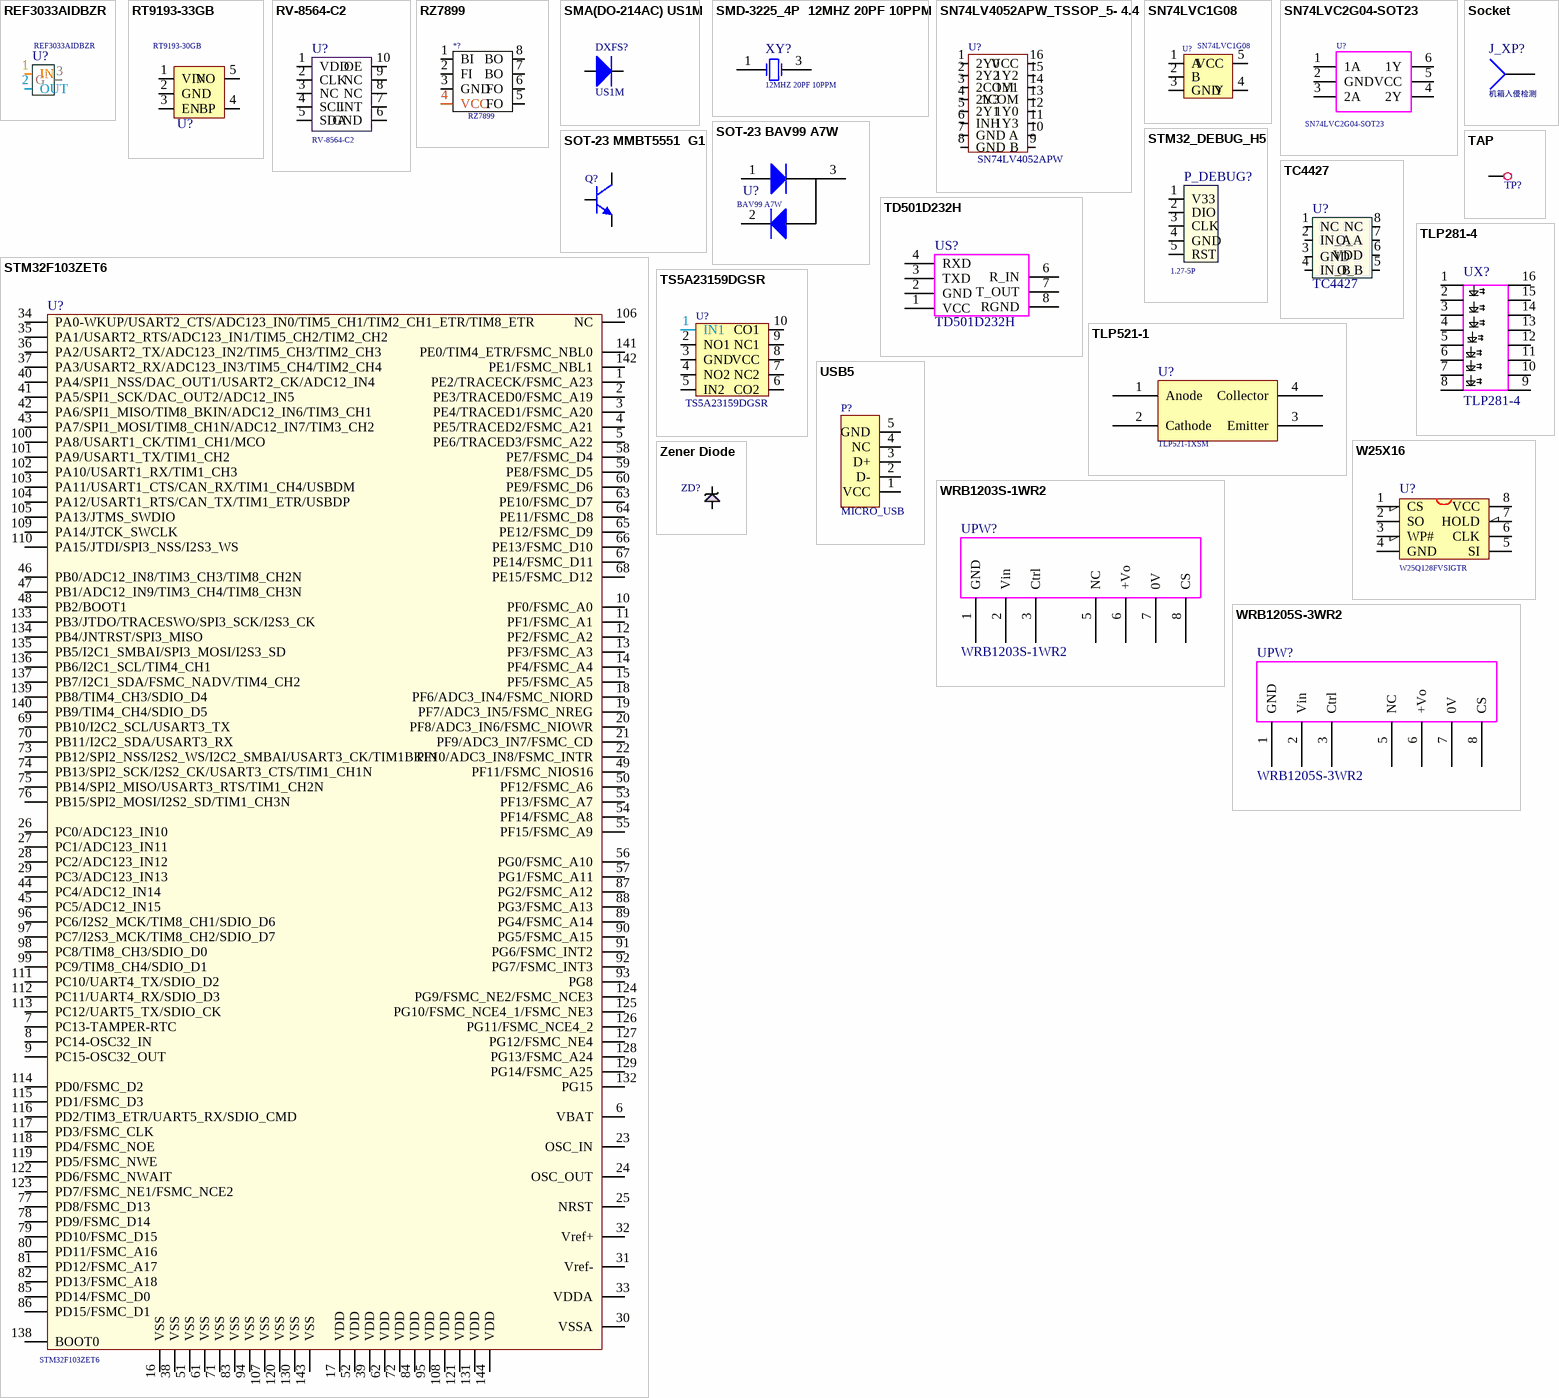
[diagram p3: symbols REF3033AIDBZR to Zener Diode]

## REF3033AIDBZR
designator U?
SuppliersPartNumber: C36658; Package: SOT-23(SOT-23-3); ComponentLink1URL: http://www.szlcsc.com/product/details_37636.html; VAL: REF3033AIDBZR
footprint SOT-23(SOT-23-3)
pins: 1 IN, 2 OUT, 3 G

## RT9193-33GB
designator U?, comment RT9193-30GB
低压差线性稳压(LDO); SuppliersPartNumber: C50004; Package: SOT-23-5; ComponentLink1URL: http://www.szlcsc.com/product/details_51013.html; VAL: RT9193-30GB
footprint SOT-23-5
pins: 1 VIN, 2 GND, 3 EN, 4 BP, 5 VO

## RV-8564-C2
designator U?
footprint RV-8564-C2
pins: 1 VDD, 2 CLK, 3 NC, 4 SCL, 5 SDA, 6 GND, 7 INT, 8 NC, 9 NC, 10 OE

## RZ7899
designator *?
4.2A 双向大电流马达驱动IC 工作电压3-25V; 封装: SOP-8_150mil; 链接: http://item.szlcsc.com/93566.html; 商品编号: C92373
pins: 1 BI, 2 FI, 3 GND, 4 VCC, 5 FO, 6 FO, 7 BO, 8 BO

## SMA(DO-214AC) US1M
designator DXFS?, comment US1M
二极管; ComponentLink1Description: 供应商链接; ComponentLink1URL: http://www.szlcsc.com/product/details_5885.html; Package: SMA(DO-214AC); Supplier: LC; SuppliersPartNumber: C5441
footprint SMA(DO-214AC)_S1
pins: 1 A, 2 K

## SMD-3225_4P  12MHZ 20PF 10PPM
designator XY?, comment 12MHZ 20PF 10PPM
贴片晶振; ComponentLink1Description: 供应商链接; ComponentLink1URL: http://www.szlcsc.com/product/details_9522.html; Package: SMD-3225_4P; Supplier: LC; SuppliersPartNumber: C9002
footprint SMD-3225_4P
pins: 1 OSC1, 3 OSC2

## SN74LV4052APW_TSSOP_5- 4.4
designator U?, comment SN74LV4052APW
双路4通道模拟多路复用器/多路解复用器; ComponentLink1URL: http://www.szlcsc.com/product/details_6097.html; val: SN74LV4052APW; Package: TSSOP (16)5.00 mm × 4.40 mm; SuppliersPartNumber: C5646
footprint TSSOP16 (TSOP, 16-Leads, Body 5.00x4.40mm, Pitch 0.65mm, IPC Medium Density)
pins: 1 2Y0, 2 2Y2, 3 2COM, 4 2Y3, 5 2Y1, 6 INH, 7 GND, 8 GND, 9 B, 10 A, 11 1Y3, 12 1Y0, 13 1COM, 14 1Y1, 15 1Y2, 16 VCC

## SN74LVC1G08
designator U?
footprint SOT23-5
pins: 1 A, 2 B, 3 GND, 4 Y, 5 VCC

## SN74LVC2G04-SOT23
designator U?
footprint SOT23-6 (SOT-23/SC-74A; 5 Leads; Body 3.1 x 3 mm, inc. leads (LxW max))
pins: 1 1A, 2 GND, 3 2A, 4 2Y, 5 VCC, 6 1Y

## Socket
designator J_XP?, comment 机箱入侵检测
Socket
footprint PIN1 (Connector; Socket)
signal-integrity model Connector
pins: 1

## SOT-23 BAV99 A7W
designator U?, comment BAV99 A7W
开关二极管; ComponentLink1Description: 供应商链接; ComponentLink1URL: http://www.szlcsc.com/product/details_2877.html; Package: SOT-23; Supplier: LC; SuppliersPartNumber: C2500
footprint SOT-23(SOT-23-3)
pins: 1 A, 2 A, 3 K

## SOT-23 MMBT5551  G1
designator Q?, comment MMBT5551  G1  (value not drawn)
三极管; ComponentLink1Description: 供应商链接; ComponentLink1URL: http://www.szlcsc.com/product/details_2502.html; Package: SOT-23; Supplier: LC; SuppliersPartNumber: C2145
footprint SOT-23(SOT-23-3)
pins: 1 B, 2 E, 3 C

## STM32_DEBUG_H5
designator P_DEBUG?, comment 1.27-5P
程序调试与刷机端子; VAL: 程序调试与刷机端子
footprint MHDR1X5 (Connector; Header; 5 Position)
pins: 1 V33, 2 DIO, 3 CLK, 4 GND, 5 RST

## STM32F103ZET6
designator U?
footprint LQFP-144_20x20x05P
pins: 1 PE2/TRACECK/FSMC_A23, 2 PE3/TRACED0/FSMC_A19, 3 PE4/TRACED1/FSMC_A20, 4 PE5/TRACED2/FSMC_A21, 5 PE6/TRACED3/FSMC_A22, 6 VBAT, 7 PC13-TAMPER-RTC, 8 PC14-OSC32_IN, 9 PC15-OSC32_OUT, 10 PF0/FSMC_A0, 11 PF1/FSMC_A1, 12 PF2/FSMC_A2, 13 PF3/FSMC_A3, 14 PF4/FSMC_A4, 15 PF5/FSMC_A5, 16 VSS, 17 VDD, 18 PF6/ADC3_IN4/FSMC_NIORD, 19 PF7/ADC3_IN5/FSMC_NREG, 20 PF8/ADC3_IN6/FSMC_NIOWR, 21 PF9/ADC3_IN7/FSMC_CD, 22 PF10/ADC3_IN8/FSMC_INTR, 23 OSC_IN, 24 OSC_OUT, 25 NRST, 26 PC0/ADC123_IN10, 27 PC1/ADC123_IN11, 28 PC2/ADC123_IN12, 29 PC3/ADC123_IN13, 30 VSSA, 31 Vref-, 32 Vref+, 33 VDDA, 34 PA0-WKUP/USART2_CTS/ADC123_IN0/TIM5_CH1/TIM2_CH1_ETR/TIM8_ETR, 35 PA1/USART2_RTS/ADC123_IN1/TIM5_CH2/TIM2_CH2, 36 PA2/USART2_TX/ADC123_IN2/TIM5_CH3/TIM2_CH3, 37 PA3/USART2_RX/ADC123_IN3/TIM5_CH4/TIM2_CH4, 38 VSS, 39 VDD, 40 PA4/SPI1_NSS/DAC_OUT1/USART2_CK/ADC12_IN4, 41 PA5/SPI1_SCK/DAC_OUT2/ADC12_IN5, 42 PA6/SPI1_MISO/TIM8_BKIN/ADC12_IN6/TIM3_CH1, 43 PA7/SPI1_MOSI/TIM8_CH1N/ADC12_IN7/TIM3_CH2, 44 PC4/ADC12_IN14, 45 PC5/ADC12_IN15, 46 PB0/ADC12_IN8/TIM3_CH3/TIM8_CH2N, 47 PB1/ADC12_IN9/TIM3_CH4/TIM8_CH3N, 48 PB2/BOOT1, 49 PF11/FSMC_NIOS16, 50 PF12/FSMC_A6, 51 VSS, 52 VDD, 53 PF13/FSMC_A7, 54 PF14/FSMC_A8, 55 PF15/FSMC_A9, 56 PG0/FSMC_A10, 57 PG1/FSMC_A11, 58 PE7/FSMC_D4, 59 PE8/FSMC_D5, 60 PE9/FSMC_D6, 61 VSS, 62 VDD, 63 PE10/FSMC_D7, 64 PE11/FSMC_D8, 65 PE12/FSMC_D9, 66 PE13/FSMC_D10, 67 PE14/FSMC_D11, 68 PE15/FSMC_D12, 69 PB10/I2C2_SCL/USART3_TX, 70 PB11/I2C2_SDA/USART3_RX, 71 VSS, 72 VDD, 73 PB12/SPI2_NSS/I2S2_WS/I2C2_SMBAI/USART3_CK/TIM1BKIN, 74 PB13/SPI2_SCK/I2S2_CK/USART3_CTS/TIM1_CH1N, 75 PB14/SPI2_MISO/USART3_RTS/TIM1_CH2N, 76 PB15/SPI2_MOSI/I2S2_SD/TIM1_CH3N, 77 PD8/FSMC_D13, 78 PD9/FSMC_D14, 79 PD10/FSMC_D15, 80 PD11/FSMC_A16, 81 PD12/FSMC_A17, 82 PD13/FSMC_A18, 83 VSS, 84 VDD, 85 PD14/FSMC_D0, 86 PD15/FSMC_D1, 87 PG2/FSMC_A12, 88 PG3/FSMC_A13, 89 PG4/FSMC_A14, 90 PG5/FSMC_A15, 91 PG6/FSMC_INT2, 92 PG7/FSMC_INT3, 93 PG8, 94 VSS, 95 VDD, 96 PC6/I2S2_MCK/TIM8_CH1/SDIO_D6, 97 PC7/I2S3_MCK/TIM8_CH2/SDIO_D7, 98 PC8/TIM8_CH3/SDIO_D0, 99 PC9/TIM8_CH4/SDIO_D1, 100 PA8/USART1_CK/TIM1_CH1/MCO, 101 PA9/USART1_TX/TIM1_CH2, 102 PA10/USART1_RX/TIM1_CH3, 103 PA11/USART1_CTS/CAN_RX/TIM1_CH4/USBDM, 104 PA12/USART1_RTS/CAN_TX/TIM1_ETR/USBDP, 105 PA13/JTMS_SWDIO, 106 NC, 107 VSS, 108 VDD, 109 PA14/JTCK_SWCLK, 110 PA15/JTDI/SPI3_NSS/I2S3_WS, 111 PC10/UART4_TX/SDIO_D2, 112 PC11/UART4_RX/SDIO_D3, 113 PC12/UART5_TX/SDIO_CK, 114 PD0/FSMC_D2, 115 PD1/FSMC_D3, 116 PD2/TIM3_ETR/UART5_RX/SDIO_CMD, 117 PD3/FSMC_CLK, 118 PD4/FSMC_NOE, 119 PD5/FSMC_NWE, 120 VSS, 121 VDD, 122 PD6/FSMC_NWAIT, 123 PD7/FSMC_NE1/FSMC_NCE2, 124 PG9/FSMC_NE2/FSMC_NCE3, 125 PG10/FSMC_NCE4_1/FSMC_NE3, 126 PG11/FSMC_NCE4_2, 127 PG12/FSMC_NE4, 128 PG13/FSMC_A24, 129 PG14/FSMC_A25, 130 VSS, 131 VDD, 132 PG15, 133 PB3/JTDO/TRACESWO/SPI3_SCK/I2S3_CK, 134 PB4/JNTRST/SPI3_MISO, 135 PB5/I2C1_SMBAI/SPI3_MOSI/I2S3_SD, 136 PB6/I2C1_SCL/TIM4_CH1, 137 PB7/I2C1_SDA/FSMC_NADV/TIM4_CH2, 138 BOOT0, 139 PB8/TIM4_CH3/SDIO_D4, 140 PB9/TIM4_CH4/SDIO_D5, 141 PE0/TIM4_ETR/FSMC_NBL0, 142 PE1/FSMC_NBL1, 143 VSS, 144 VDD

## TAP
designator TP?  (value not drawn)
footprint TAP_1
pins: 1

## TC4427
designator U?
footprint SOIC8
pins: 1 NC, 2 IN_A, 3 GND, 4 IN_B, 5 O_B, 6 VDD, 7 O_A, 8 NC

## TD501D232H
designator US?
TTL-232隔离转换模块(金升阳); VAL: TTL-232隔离转换模块
footprint TD501D232H
pins: 1 VCC, 2 GND, 3 TXD, 4 RXD, 6 R_IN, 7 T_OUT, 8 RGND

## TLP281-4
designator UX?
贴片光耦; VAL: 贴片光耦/TLP281-4(GB-TP,J,F 编带; Package: SOP-16_150mil; ComponentLink1URL: http://www.szlcsc.com/product/details_90227.html; SuppliersPartNumber: C89047; Supplier: LC
footprint SO16
footprint LC-SOP-16_150mil
pins: 1, 2, 3, 4, 5, 6, 7, 8, 9, 10, 11, 12, 13, 14, 15, 16

## TLP521-1
designator U?, comment TLP521-1XSM
footprint LC-SMD-4
pins: 1 Anode, 2 Cathode, 3 Emitter, 4 Collector
2 alternate drawings of the same symbol

## TS5A23159DGSR
designator U?
2-CHANNEL 2:1 MULTIPLEXER/DEMULTIPLEXER; VAL: TS5A23159DGSR; SuppliersPartNumber: C42751; Package: VSSOP-10; ComponentLink1URL: http://www.szlcsc.com/product/details_43742.html
footprint Model Name (Footprint not found)
footprint LC-VSSOP-10
pins: 1 IN1, 2 NO1, 3 GND, 4 NO2, 5 IN2, 6 CO2, 7 NC2, 8 VCC, 9 NC1, 10 CO1

## USB5
designator P?, comment MICRO_USB
USB_B方头; VAL: USB_B方头
footprint USB/SM0.8-6H5
pins: 1 VCC, 2 D-, 3 D+, 4 NC, 5 GND

## W25X16
designator U?, comment W25Q128FVSIGTR
SPI Flash ROM; SuppliersPartNumber: C110643; ComponentLink1URL: http://www.szlcsc.com/product/details_111868.html; Package: SOIC-8; ComponentLink1Description: 供应商链接; Supplier: LC; VAL: W25Q128FVSIGTR
footprint SOIC8
footprint SOIC-8_208mil
pins: 1 CS, 2 SO, 3 WP#, 4 GND, 5 SI, 6 CLK, 7 HOLD, 8 VCC

## WRB1203S-1WR2
designator UPW?
DC-DC隔离变送器(金升阳); VAL: 12V-3.3V,DC-DC隔离变送器
footprint WRB120XS-XWR2
pins: 1 GND, 2 Vin, 3 Ctrl, 5 NC, 6 +Vo, 7 0V, 8 CS

## WRB1205S-3WR2
designator UPW?
DC-DC隔离变送器(金升阳); VAL: 12V-5.0V,DC-DC隔离变送器
footprint WRB120XS-XWR2
pins: 1 GND, 2 Vin, 3 Ctrl, 5 NC, 6 +Vo, 7 0V, 8 CS

## Zener Diode
designator ZD?, comment LBZT52C12T1G  (value not drawn)
Surface Mount Zener Diodes; VAL: LBZT52C2V4T1G Series; InstructionS: LBZT52C12:Nom(v)=12,Min(V)=11.4,Max(V)=12.7; *MMBZ5242A:Nom(v)=12,Min(V)=11.76,Max(V)=12.24; ComponentLink1URL: http://www.szlcsc.com/product/details_13388.html; SuppliersPartNumber: C12747; Package: SOD-123; Supplier: LC; ComponentLink1Description: 供应商链接
footprint SOD123 (1206)
pins: 1, 2